# Altium schematic symbol library csr.SCHLIB: 1 symbol
Pins are listed as number, name and electrical type; pins without a type are passive.

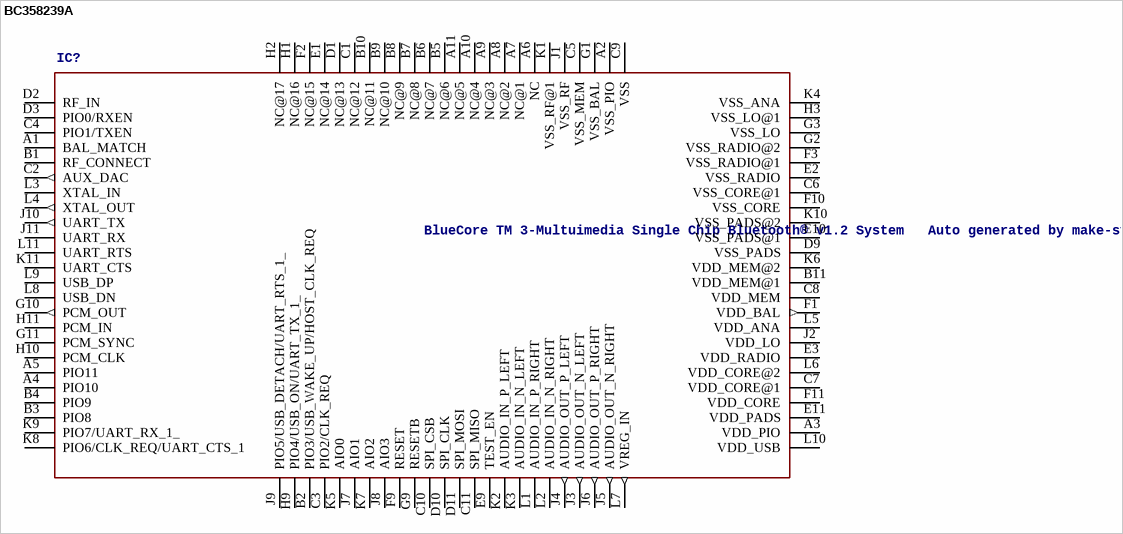
[diagram p0: symbol BC358239A]

## BC358239A
designator IC?, comment BlueCore TM 3-Multuimedia Single Chip Bluetooth® v1.2 System   Auto generated by make-symbol-device-package-bsdl.ulp Rev. 19 Source: http://www.csrsupport.com/download/1796/CS-101560-DSP1%20BlueCore3-Multimedia%20Product%20Data%20Sheet.pdf
OC_FARNELL: unknown; OC_NEWARK: unknown
footprint LFBGA96
pins: A1 BAL_MATCH, A2 VSS_PIO (power), A3 VDD_PIO, A4 PIO10, A5 PIO11, A6 NC (power), A7 NC@1, A8 NC@2, A9 NC@3, A10 NC@4, A11 NC@5, B1 RF_CONNECT, B2 PIO3/USB_WAKE_UP/HOST_CLK_REQ, B3 PIO8, B4 PIO9, B5 NC@6, B6 NC@7, B7 NC@8, B8 NC@9, B9 NC@10, B10 NC@11, B11 VDD_MEM@1 (power), C1 NC@12, C2 AUX_DAC (out), C3 PIO2/CLK_REQ, C4 PIO1/TXEN, C5 VSS_MEM (power), C6 VSS_CORE@1 (power), C7 VDD_CORE@1 (power), C8 VDD_MEM, C9 VSS (power), C10 SPI_CSB, C11 SPI_MISO (hiz), D1 NC@13, D2 RF_IN, D3 PIO0/RXEN, D9 VSS_PADS (power), D10 SPI_CLK, D11 SPI_MOSI, E1 NC@14, E2 VSS_RADIO (power), E3 VDD_RADIO (power), E9 TEST_EN, E10 VSS_PADS@1 (power), E11 VDD_PADS, F1 VDD_BAL (out), F2 NC@15, F3 VSS_RADIO@1 (power), F9 RESET, F10 VSS_CORE (power), F11 VDD_CORE, G1 VSS_BAL (power), G2 VSS_RADIO@2 (power), G3 VSS_LO (power), G9 RESETB, G10 PCM_OUT (out), G11 PCM_SYNC, H1 NC@16, H2 NC@17, H3 VSS_LO@1 (power), H9 PIO4/USB_ON/UART_TX_1_, H10 PCM_CLK, H11 PCM_IN, J1 VSS_RF (power), J2 VDD_LO, J3 AUDIO_OUT_N_LEFT (out), J4 AUDIO_OUT_P_LEFT (out), J5 AUDIO_OUT_N_RIGHT (out), J6 AUDIO_OUT_P_RIGHT (out), J7 AIO1, J8 AIO3, J9 PIO5/USB_DETACH/UART_RTS_1_, J10 UART_TX (out), J11 UART_RX, K1 VSS_RF@1 (power), K2 AUDIO_IN_P_LEFT, K3 AUDIO_IN_N_LEFT, K4 VSS_ANA (power), K5 AIO0, K6 VDD_MEM@2 (power), K7 AIO2, K8 PIO6/CLK_REQ/UART_CTS_1, K9 PIO7/UART_RX_1_, K10 VSS_PADS@2 (power), K11 UART_CTS, L1 AUDIO_IN_P_RIGHT, L2 AUDIO_IN_N_RIGHT, L3 XTAL_IN, L4 XTAL_OUT (out), L5 VDD_ANA, L6 VDD_CORE@2 (power), L7 VREG_IN (out), L8 USB_DN, L9 USB_DP, L10 VDD_USB, L11 UART_RTS (hiz)